# EAGLE library part CONN-20PIN (library ORBIT-CONN HEADER-3M-2500 Series)
3M-CONNECTOR 2500 Series CONN HEADER VERT 20POS 2.54MM N2520-6002-RB https://www.digikey.com/product-detail/en/3m/N2520-6002-RB/MHC20K-ND/755179 CONN HEADER R/A 20POS 2.54MM N2520-5002-RB https://www.digikey.com/product-detail/en/3m/N2520-5002-RB/MHE20K-ND/755191 CONN HEADER SMD 20POS 2.54MM N2520-6V0C-RB-WE https://www.digikey.com/product-detail/en/3m/N2520-6V0C-RB-WE/MSH20KCT-ND/1125449
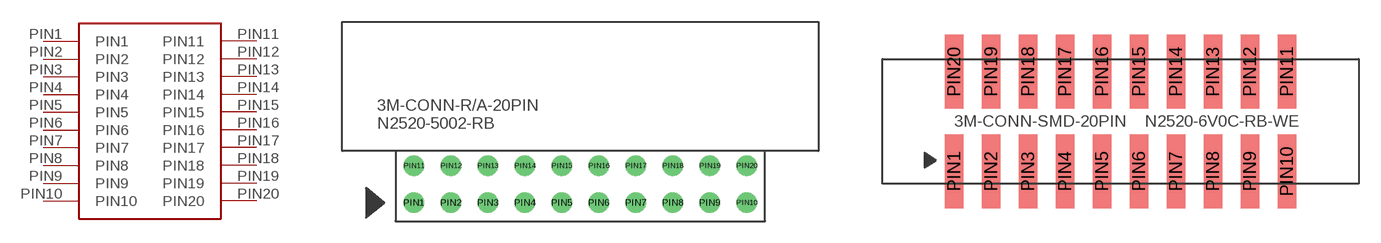
[diagram p0: symbol with the pads of R/A-20PIN; footprints R/A-20PIN, SMD-20PIN]

Designator prefix -

## CONN-20PINR/A-20PIN  [R/A-20PIN]
PIN1  PIN1
PIN2  PIN2
PIN3  PIN3
PIN4  PIN4
PIN5  PIN5
PIN6  PIN6
PIN7  PIN7
PIN8  PIN8
PIN9  PIN9
PIN10  PIN10
PIN11  PIN11
PIN12  PIN12
PIN13  PIN13
PIN14  PIN14
PIN15  PIN15
PIN16  PIN16
PIN17  PIN17
PIN18  PIN18
PIN19  PIN19
PIN20  PIN20

## CONN-20PINSMD-20PIN  [SMD-20PIN]
Pads as for R/A-20PIN

## CONN-20PINVERT-20PIN  [VERT-20PIN]
Pads as for R/A-20PIN

## Footprint R/A-20PIN (pad centres in mm)
3M-CONN-RIGHT_ANGLE-20PIN CONN HEADER R/A 20POS 2.54MM N2520-5002-RB Website: https://www.digikey.com/product-detail/en/3m/N2520-5002-RB/MHE20K-ND/755191
drill 0.889: PIN1 0,0; PIN2 2.54,0; PIN3 5.08,0; PIN4 7.62,0; PIN5 10.16,0; PIN6 12.7,0; PIN7 15.24,0; PIN8 17.78,0; PIN9 20.32,0; PIN10 22.86,0; PIN11 0,2.54; PIN12 2.54,2.54; PIN13 5.08,2.54; PIN14 7.62,2.54; PIN15 10.16,2.54; PIN16 12.7,2.54; PIN17 15.24,2.54; PIN18 17.78,2.54; PIN19 20.32,2.54; PIN20 22.86,2.54

## Footprint SMD-20PIN (pad centres in mm)
3M-CONN-SMD-20PIN CONN HEADER SMD 20POS 2.54MM N2520-6V0C-RB-WE Website: https://www.digikey.com/product-detail/en/3m/N2520-6V0C-RB-WE/MSH20KCT-ND/1125449
smd 1.27 x 5.08: PIN1 0,0; PIN2 2.54,0; PIN3 5.08,0; PIN4 7.62,0; PIN5 10.16,0; PIN6 12.7,0; PIN7 15.24,0; PIN8 17.78,0; PIN9 20.32,0; PIN10 22.86,0; PIN11 22.86,6.858; PIN12 20.32,6.858; PIN13 17.78,6.858; PIN14 15.24,6.858; PIN15 12.7,6.858; PIN16 10.16,6.858; PIN17 7.62,6.858; PIN18 5.08,6.858; PIN19 2.54,6.858; PIN20 0,6.858

## Footprint VERT-20PIN (pad centres in mm)
3M-CONN-VERTICAL-20PIN CONN HEADER VERT 20POS 2.54MM N2520-6002-RB Website: https://www.digikey.com/product-detail/en/3m/N2520-6002-RB/MHC20K-ND/755179
drill 0.89: PIN1 0,0; PIN2 2.54,0; PIN3 5.08,0; PIN4 7.62,0; PIN5 10.16,0; PIN6 12.7,0; PIN7 15.24,0; PIN8 17.78,0; PIN9 20.32,0; PIN10 22.86,0; PIN11 0,2.54; PIN12 2.54,2.54; PIN13 5.08,2.54; PIN14 7.62,2.54; PIN15 10.16,2.54; PIN16 12.7,2.54; PIN17 15.24,2.54; PIN18 17.78,2.54; PIN19 20.32,2.54; PIN20 22.86,2.54